# Altium schematic symbol library SMAJ26CA.Schlib: 1 symbol
Pins are listed as number, name and electrical type; pins without a type are passive.

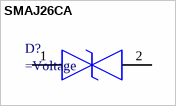
[diagram p0: symbol SMAJ26CA]

## SMAJ26CA
designator D?
Diode, TVS, Bi, 26V
pins: 1, 2